# EAGLE library part TPS7A2633DRVR (library voltageRegulator_linear)
Check availability <https://pricing.snapeda.com/parts/TPS7A2633DRVR/Texas%20Instruments/view-part?ref=eda>
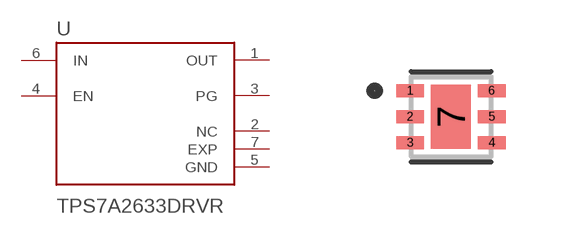
[diagram p0: symbol with the pads of SON65P200X200X80-7N; footprint SON65P200X200X80-7N]

Designator prefix U

## TPS7A2633DRVR (AVAILABILITY: In Stock; CHECK_PRICES: https://www.snapeda.com/parts/TPS7A2633DRVR/Texas+Instruments/view-part/?ref=eda; DESCRIPTION: 500-mA, 18-V, ultra-low-IQ, high-accuracy, adjustable low-dropout voltage regulator with power good; MF: Texas Instruments; MP: TPS7A2633DRVR; PACKAGE: WSON-6 Texas Instruments; PRICE: None; SNAPEDA_LINK: https://www.snapeda.com/parts/TPS7A2633DRVR/Texas+Instruments/view-part/?ref=snap)  [SON65P200X200X80-7N]
1  OUT  out
2  NC  pas
3  PG  out
4  EN  in
5  GND  pwr
6  IN  in
7  EXP  pas

## Footprint SON65P200X200X80-7N (pad centres in mm)
smd 0.69 x 0.32: 1 -1.02,0.65; 2 -1.02,0; 3 -1.02,-0.65; 4 1.02,-0.65; 5 1.02,0; 6 1.02,0.65
smd 1 x 1.6: 7 0,0